# EAGLE library part ESP32-WROVER-I_(16/8/4MB) (library ICs)
WiFi / 802.11 Modules SMD Module, ESP32-D0WDQ6, 32Mbits PSRAM, 128Mbits SPI flash, IPEX Antenna connector Source: Datasheet <https://componentsearchengine.com/Datasheets/1/ESP32-WROVER-I (16MB).pdf>
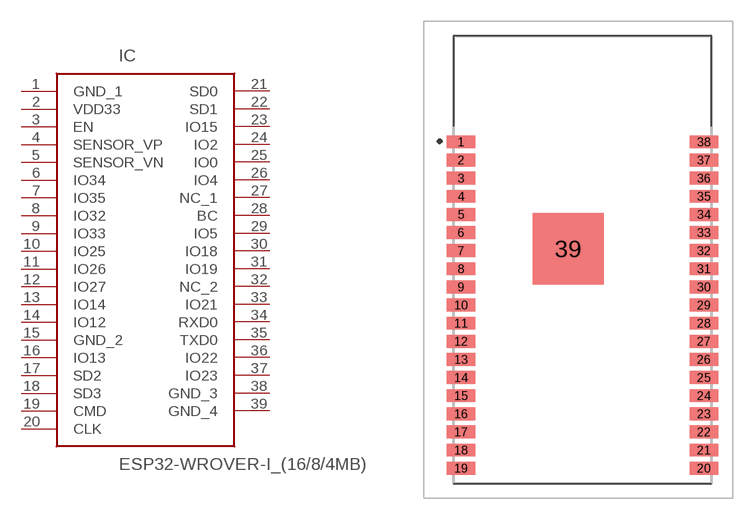
[diagram p0: symbol with the pads of ESP32WROVERI-16/8/4MB; footprint ESP32WROVERI-16/8/4MB]

Designator prefix IC

## ESP32-WROVER-I_(16/8/4MB) (DESCRIPTION: WiFi / 802.11 Modules SMD Module, ESP32-D0WDQ6, 32Mbits PSRAM, 128Mbits SPI flash, IPEX Antenna connector; HEIGHT: 4mm; MANUFACTURER_NAME: Espressif Systems; MANUFACTURER_PART_NUMBER: ESP32-WROVER-I (16MB); MOUSER_PART_NUMBER: 356-ESP32WROVERI16MB; MOUSER_PRICE-STOCK: https://www.mouser.com/Search/Refine.aspx?Keyword=356-ESP32WROVERI16MB)  [ESP32WROVERI-16/8/4MB]
1  GND_1
2  VDD33
3  EN
4  SENSOR_VP
5  SENSOR_VN
6  IO34
7  IO35
8  IO32
9  IO33
10  IO25
11  IO26
12  IO27
13  IO14
14  IO12
15  GND_2
16  IO13
17  SD2
18  SD3
19  CMD
20  CLK
21  SD0
22  SD1
23  IO15
24  IO2
25  IO0
26  IO4
27  NC_1
28  BC
29  IO5
30  IO18
31  IO19
32  NC_2
33  IO21
34  RXD0
35  TXD0
36  IO22
37  IO23
38  GND_3
39  GND_4

## Footprint ESP32WROVERI-16/8/4MB (pad centres in mm)
ESP32-WROVER-I
smd 2 x 0.9: 1 0,0; 2 0,-1.27; 3 0,-2.54; 4 0,-3.81; 5 0,-5.08; 6 0,-6.35; 7 0,-7.62; 8 0,-8.89; 9 0,-10.16; 10 0,-11.43; 11 0,-12.7; 12 0,-13.97; 13 0,-15.24; 14 0,-16.51; 15 0,-17.78; 16 0,-19.05; 17 0,-20.32; 18 0,-21.59; 19 0,-22.86; 20 17,-22.86; 21 17,-21.59; 22 17,-20.32; 23 17,-19.05; 24 17,-17.78; 25 17,-16.51; 26 17,-15.24; 27 17,-13.97; 28 17,-12.7; 29 17,-11.43; 30 17,-10.16; 31 17,-8.89; 32 17,-7.62; 33 17,-6.35; 34 17,-5.08; 35 17,-3.81; 36 17,-2.54; 37 17,-1.27; 38 17,0
smd 5 x 5: 39 7.5,-7.5